# EAGLE library part RJLSE-*-01T (library NewSDR)
Amphenol RJLSE Series RJ-45 SMD Modular Jack
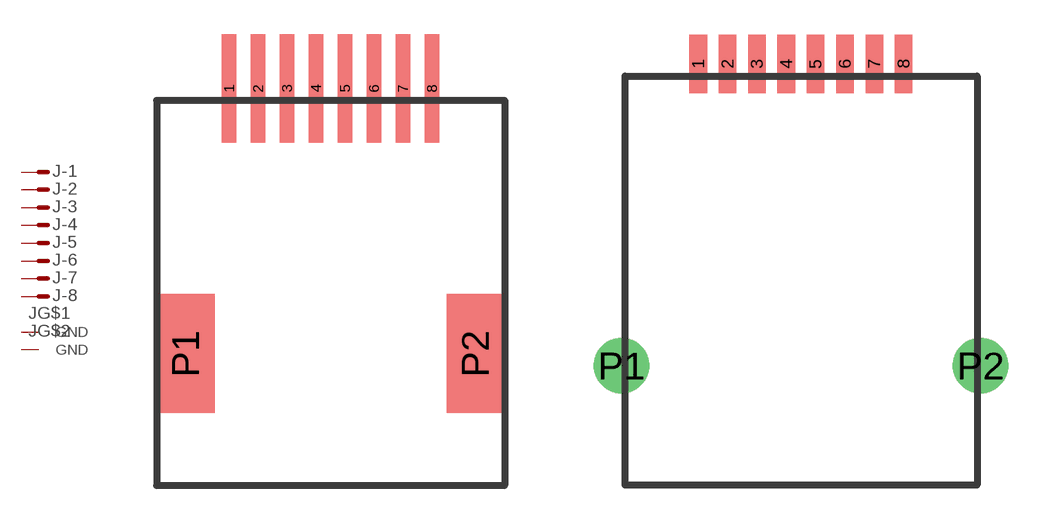
[diagram p78: symbol with the pads of RJLSE_RJ45; footprints RJLSE_RJ45, RJLSE_SH_RJ45]

Designator prefix J; gates -1=M -2=M -3=M -4=M -5=M -6=M -7=M -8=M G$1=GND-1 G$2=GND-1

## RJLSE--01T-0  [RJLSE_RJ45]
1  -1:M  pas
2  -2:M  pas
3  -3:M  pas
4  -4:M  pas
5  -5:M  pas
6  -6:M  pas
7  -7:M  pas
8  -8:M  pas

## RJLSE--01T-1  [RJLSE_SH_RJ45]
1  -1:M  pas
2  -2:M  pas
3  -3:M  pas
4  -4:M  pas
5  -5:M  pas
6  -6:M  pas
7  -7:M  pas
8  -8:M  pas
P1  G$1:GND  pwr
P2  G$2:GND  pwr

## Footprint RJLSE_RJ45 (pad centres in mm)
Amphenol SMD RJ-45 Unshielded Jack
smd 0.635 x 4.75: 1 -4.445,0; 2 -3.175,0; 3 -1.905,0; 4 -0.635,0; 5 0.635,0; 6 1.905,0; 7 3.175,0; 8 4.445,0
smd 2.54 x 5.207: P1 -6.35,-11.633; P2 6.35,-11.633

## Footprint RJLSE_SH_RJ45 (pad centres in mm)
Shielded RJ45 SMD
smd 0.762 x 2.54: 1 -4.445,0; 2 -3.175,0; 3 -1.905,0; 4 -0.635,0; 5 0.635,0; 6 1.905,0; 7 3.175,0; 8 4.445,0
drill 1.6: P1 -7.772,-13.081; P2 7.772,-13.081